# Altium schematic symbol library 12pF Capacitor.SchLib: 1 symbol
Pins are listed as number, name and electrical type; pins without a type are passive.

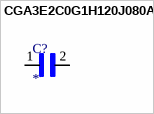
[diagram p0: symbol CGA3E2C0G1H120J080AA]

## CGA3E2C0G1H120J080AA
designator C?
Multilayer Ceramic Capacitor, CGA Series, 12 pF, - 5%, C0G / NP0, 50 V, 0603 [1608 Metric]; MF: TDK; MP: CGA3E2C0G1H120J080AA; SnapEDA_Link: https://www.snapeda.com/parts/CGA3E2C0G1H120J080AA/TDK/view-part/?ref=snap; Package: 1608 TDK; Value: *; Check_prices: https://www.snapeda.com/parts/CGA3E2C0G1H120J080AA/TDK/view-part/?ref=eda
footprint CAPC1608X90N
pins: 1, 2